# EAGLE library part PCF8574 (library Metvoc2.0)
PCF8574: I2C GPIO Expander Specifications: Manufacturer: Texas Instruments Number of I/O: 8 Output Type: Push-Pull Interface: I2C Clock Frequency: 100 kHz Voltage - Supply: 2.5 - 6 V Datasheet: PCF8574DWR <http://www.ti.com/lit/ds/symlink/pcf8574.pdf> Digi-Key Part #: 296-13108-1-ND <https://www.digikey.com/product-detail/en/texas-instruments/PCF8574DWR/296-13108-1-ND/484579>
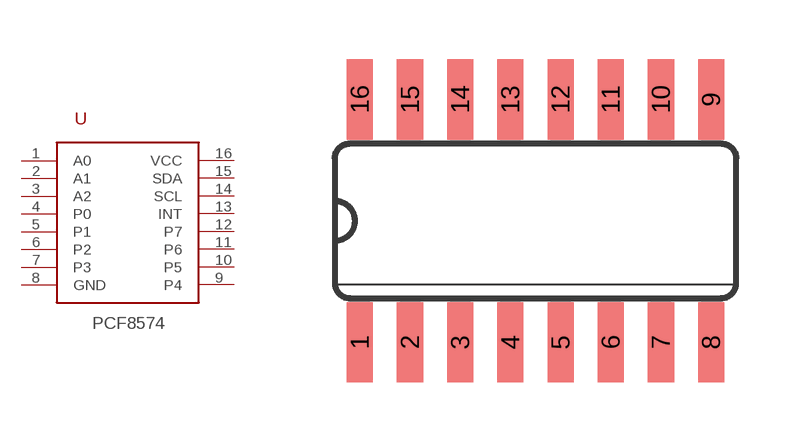
[diagram p0: symbol with the pads of SO16; footprint SO16]

Designator prefix -

## PCF8574  [SO16]
1  A0
2  A1
3  A2
4  P0
5  P1
6  P2
7  P3
8  GND
9  P4
10  P5
11  P6
12  P7
13  INT
14  SCL
15  SDA
16  VCC

## Footprint SO16 (pad centres in mm)
Small Outline Package 16
smd 0.66 x 2.032: 1 -4.445,-3.073; 2 -3.175,-3.073; 3 -1.905,-3.073; 4 -0.635,-3.073; 5 0.635,-3.073; 6 1.905,-3.073; 7 3.175,-3.073; 8 4.445,-3.073; 9 4.445,3.073; 10 3.175,3.073; 11 1.905,3.073; 12 0.635,3.073; 13 -0.635,3.073; 14 -1.905,3.073; 15 -3.175,3.073; 16 -4.445,3.073